# EAGLE library part M08X2 (library Connectors)
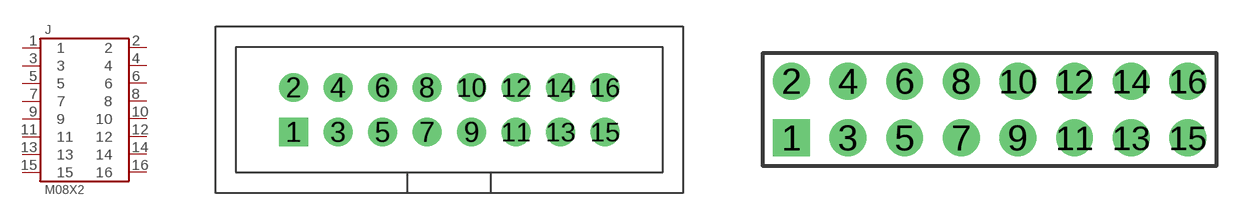
[diagram p7: symbol with the pads of M08X2-100MIL_SHROUD; footprints M08X2-100MIL_SHROUD, M08X2-100MIL]

Designator prefix J

## M08X2-100MIL_SHROUD  [M08X2-100MIL_SHROUD]
1  1
2  2
3  3
4  4
5  5
6  6
7  7
8  8
9  9
10  10
11  11
12  12
13  13
14  14
15  15
16  16

## M08X2-100MIL  [M08X2-100MIL]
Pads as for M08X2-100MIL_SHROUD

## M08X2-100MIL_HORIZONTAL  [M08X2-100MIL_HORIZONTAL]
Pads as for M08X2-100MIL_SHROUD

## Footprint M08X2-100MIL_SHROUD (pad centres in mm)
drill 1.016 pad 1.651 square: 1 -8.89,-1.27
drill 1.016 pad 1.651: 2 -8.89,1.27; 3 -6.35,-1.27; 4 -6.35,1.27; 5 -3.81,-1.27; 6 -3.81,1.27; 7 -1.27,-1.27; 8 -1.27,1.27; 9 1.27,-1.27; 10 1.27,1.27; 11 3.81,-1.27; 12 3.81,1.27; 13 6.35,-1.27; 14 6.35,1.27; 15 8.89,-1.27; 16 8.89,1.27

## Footprint M08X2-100MIL (pad centres in mm)
drill 1.016 pad 1.651 square: 1 -8.89,-1.27
drill 1.016 pad 1.651: 2 -8.89,1.27; 3 -6.35,-1.27; 4 -6.35,1.27; 5 -3.81,-1.27; 6 -3.81,1.27; 7 -1.27,-1.27; 8 -1.27,1.27; 9 1.27,-1.27; 10 1.27,1.27; 11 3.81,-1.27; 12 3.81,1.27; 13 6.35,-1.27; 14 6.35,1.27; 15 8.89,-1.27; 16 8.89,1.27

## Footprint M08X2-100MIL_HORIZONTAL (pad centres in mm)
drill 1.016 pad 1.651 square: 1 -8.89,-1.27
drill 1.016 pad 1.651: 2 -8.89,1.27; 3 -6.35,-1.27; 4 -6.35,1.27; 5 -3.81,-1.27; 6 -3.81,1.27; 7 -1.27,-1.27; 8 -1.27,1.27; 9 1.27,-1.27; 10 1.27,1.27; 11 3.81,-1.27; 12 3.81,1.27; 13 6.35,-1.27; 14 6.35,1.27; 15 8.89,-1.27; 16 8.89,1.27